# EAGLE library part SSD1306 (library IDMLib)
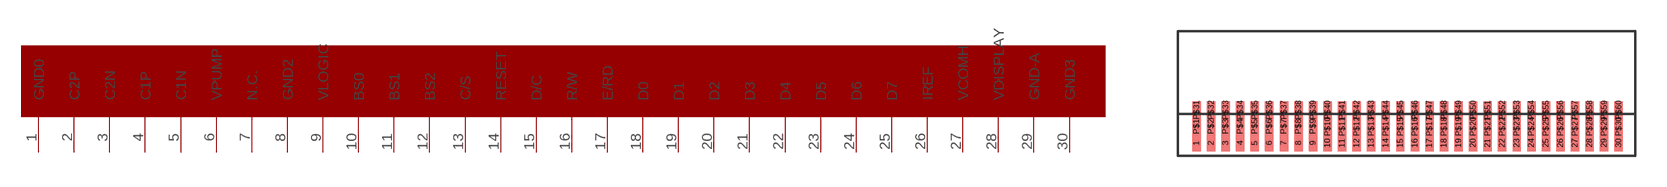
[diagram p2: symbol with the pads of SSD1306; footprint SSD1306]

Designator prefix -

## SSD1306  [SSD1306]
1  GND0
2  C2P
3  C2N
4  C1P
5  C1N
6  VPUMP
7  N.C.
8  GND2
9  VLOGIC
10  BS0
11  BS1
12  BS2
13  C/S
14  RESET
15  D/C
16  R/W
17  E/RD
18  D0
19  D1
20  D2
21  D3
22  D4
23  D5
24  D6
25  D7
26  IREF
27  VCOMH
28  VDISPLAY
29  GND-A
30  GND3

## Footprint SSD1306 (pad centres in mm)
smd 0.406 x 0.813: 1 -10.1,-0.4; 2 -9.4,-0.4; 3 -8.7,-0.4; 4 -8,-0.4; 5 -7.3,-0.4; 6 -6.6,-0.4; 7 -5.9,-0.4; 8 -5.2,-0.4; 9 -4.5,-0.4; 10 -3.8,-0.4; 11 -3.1,-0.4; 12 -2.4,-0.4; 13 -1.7,-0.4; 14 -1,-0.4; 15 -0.3,-0.4; 16 0.4,-0.4; 17 1.1,-0.4; 18 1.8,-0.4; 19 2.5,-0.4; 20 3.2,-0.4; 21 3.9,-0.4; 22 4.6,-0.4; 23 5.3,-0.4; 24 6,-0.4; 25 6.7,-0.4; 26 7.4,-0.4; 27 8.1,-0.4; 28 8.8,-0.4; 29 9.5,-0.4; 30 10.2,-0.4; P$1 -10.1,0.4; P$2 -9.4,0.4; P$3 -8.7,0.4; P$4 -8,0.4; P$5 -7.3,0.4; P$6 -6.6,0.4; P$7 -5.9,0.4; P$8 -5.2,0.4; P$9 -4.5,0.4; P$10 -3.8,0.4; P$11 -3.1,0.4; P$12 -2.4,0.4; P$13 -1.7,0.4; P$14 -1,0.4; P$15 -0.3,0.4; P$16 0.4,0.4; P$17 1.1,0.4; P$18 1.8,0.4; P$19 2.5,0.4; P$20 3.2,0.4; P$21 3.9,0.4; P$22 4.6,0.4; P$23 5.3,0.4; P$24 6,0.4; P$25 6.7,0.4; P$26 7.4,0.4; P$27 8.1,0.4; P$28 8.8,0.4; P$29 9.5,0.4; P$30 10.2,0.4; P$31 -10.1,1.2; P$32 -9.4,1.2; P$33 -8.7,1.2; P$34 -8,1.2; P$35 -7.3,1.2; P$36 -6.6,1.2; P$37 -5.9,1.2; P$38 -5.2,1.2; P$39 -4.5,1.2; P$40 -3.8,1.2; P$41 -3.1,1.2; P$42 -2.4,1.2; P$43 -1.7,1.2; P$44 -1,1.2; P$45 -0.3,1.2; P$46 0.4,1.2; P$47 1.1,1.2; P$48 1.8,1.2; P$49 2.5,1.2; P$50 3.2,1.2; P$51 3.9,1.2; P$52 4.6,1.2; P$53 5.3,1.2; P$54 6,1.2; P$55 6.7,1.2; P$56 7.4,1.2; P$57 8.1,1.2; P$58 8.8,1.2; P$59 9.5,1.2; P$60 10.2,1.2